# EAGLE library part CAT24C (library fcd)
EEPROM 256KBit 400KHz
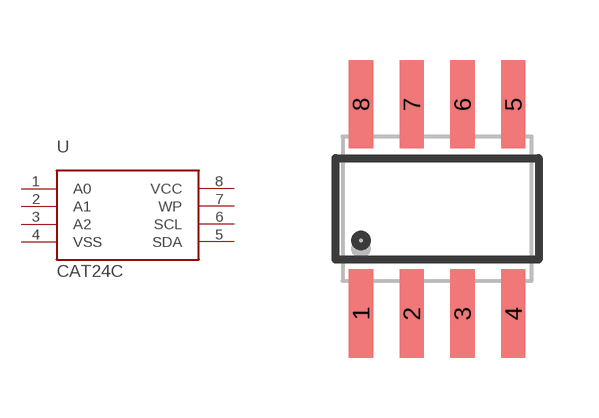
[diagram p3: symbol with the pads of SOIC-8; footprint SOIC-8]

Designator prefix U

## CAT24C256/SOIC-8  [SOIC-8]
1  A0  in
2  A1  in
3  A2  in
4  VSS  pwr
5  SDA  oc
6  SCL  oc
7  WP  in
8  VCC  pwr

## Footprint SOIC-8 (pad centres in mm)
Small Outline Package
smd 0.61 x 2.21: 1 -1.905,-2.616; 2 -0.635,-2.616; 3 0.635,-2.616; 4 1.905,-2.616; 5 1.905,2.616; 6 0.635,2.616; 7 -0.635,2.616; 8 -1.905,2.616